# Altium schematic symbol library MUX36D08.SchLib: 1 symbol
Pins are listed as number, name and electrical type; pins without a type are passive.

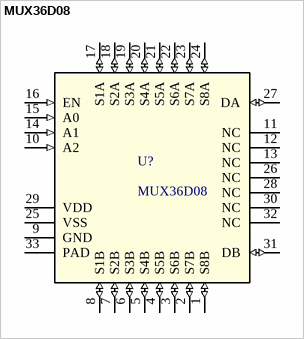
[diagram p0: symbol MUX36D08]

## MUX36D08
designator U?
1-pA on-state leakage current, 36-V,dual 8:1, precision analog multiplexer; Manufacturer: Texas Instruments; PartNumber: MUX36D08IRTVR; RefDes: RefDes; Type: DEV; Value: Value; Copyright: Copyright (C) 2018 Accelerated Designs. All rights reserved; ComponentLink1Description: Product Page; ComponentLink1URL: https://www.ti.com/product/MUX36D08
footprint RTV0032E
footprint RSN32_TEX
footprint RSN32_TEX-L
footprint RSN32_TEX-M
pins: 1 S8B (io), 2 S7B (io), 3 S6B (io), 4 S5B (io), 5 S4B (io), 6 S3B (io), 7 S2B (io), 8 S1B (io), 9 GND (power), 10 A2 (in), 11 NC, 12 NC, 13 NC, 14 A1 (in), 15 A0 (in), 16 EN (in), 17 S1A (io), 18 S2A (io), 19 S3A (io), 20 S4A (io), 21 S5A (io), 22 S6A (io), 23 S7A (io), 24 S8A (io), 25 VSS (power), 26 NC, 27 DA (io), 28 NC, 29 VDD (power), 30 NC, 31 DB (io), 32 NC, 33 PAD